# Altium footprint library Stepper_control_board_v100.PcbLib: 1 footprints
Each footprint in its own frame and in the unit in brackets; x right, y up, seen from the top. Pads: shape width x height; smd on the part's side, far side on the other; paste and mask are expansions set on the pad; w line width, h text height; cw(c..) or ccw(c..) is an arc to the next point about the centre after c.
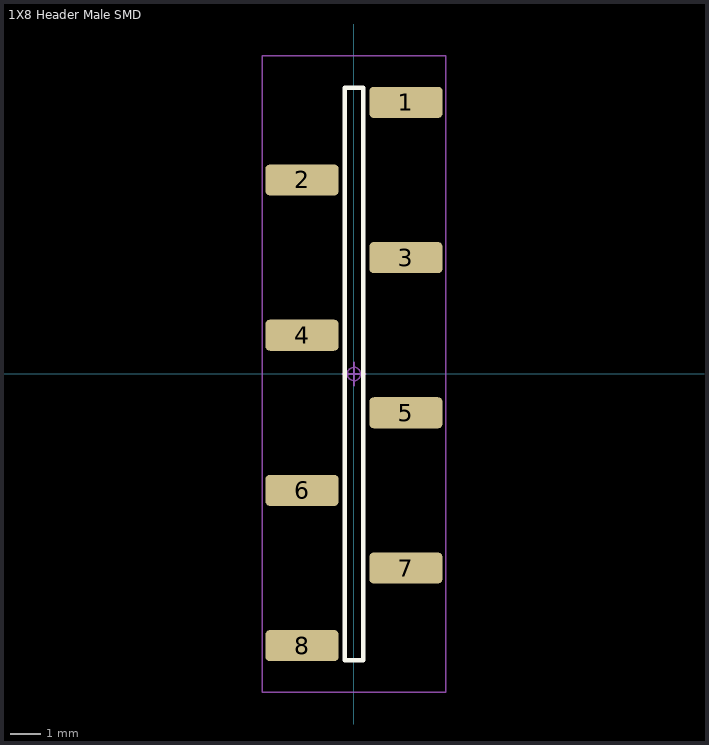
[diagram p0: the footprint, top view; thin cyan lines are the x and y axes]

## 1X8 Header Male SMD [mm]
pads (8):
  rrect30% 2.4x1.02 smd mask+0.05: 1(1.7,8.89) 2(-1.7,6.35) 3(1.7,3.81) 4(-1.7,1.27) 5(1.7,-1.27) 6(-1.7,-3.81) 7(1.7,-6.35) 8(-1.7,-8.89)
Top Overlay:
  lines w0.152: -0.3,-9.373 0.3,-9.373 0.3,9.373 -0.3,9.373 -0.3,-9.373
Mechanical 15:
  circle w0.051: c0,0 r0.219
  lines w0.051: -0.381,0 0.381,0 ; 0,-0.381 0,0.381 ; -3,-10.414 3,-10.414 3,10.414 -3,10.414 -3,-10.414
3D body "TSM-108-01-S-SV.stp": height 9.78, standoff 0.13, extent -2.642,-10.16 2.642,10.16